# Altium footprint library Discrete_Passive.PcbLib: 311 footprints (part 8 of 20)
Each footprint in its own frame and in the unit in brackets; x right, y up, seen from the top. Pads: shape width x height; smd on the part's side, far side on the other; paste and mask are expansions set on the pad; w line width, h text height; cw(c..) or ccw(c..) is an arc to the next point about the centre after c.
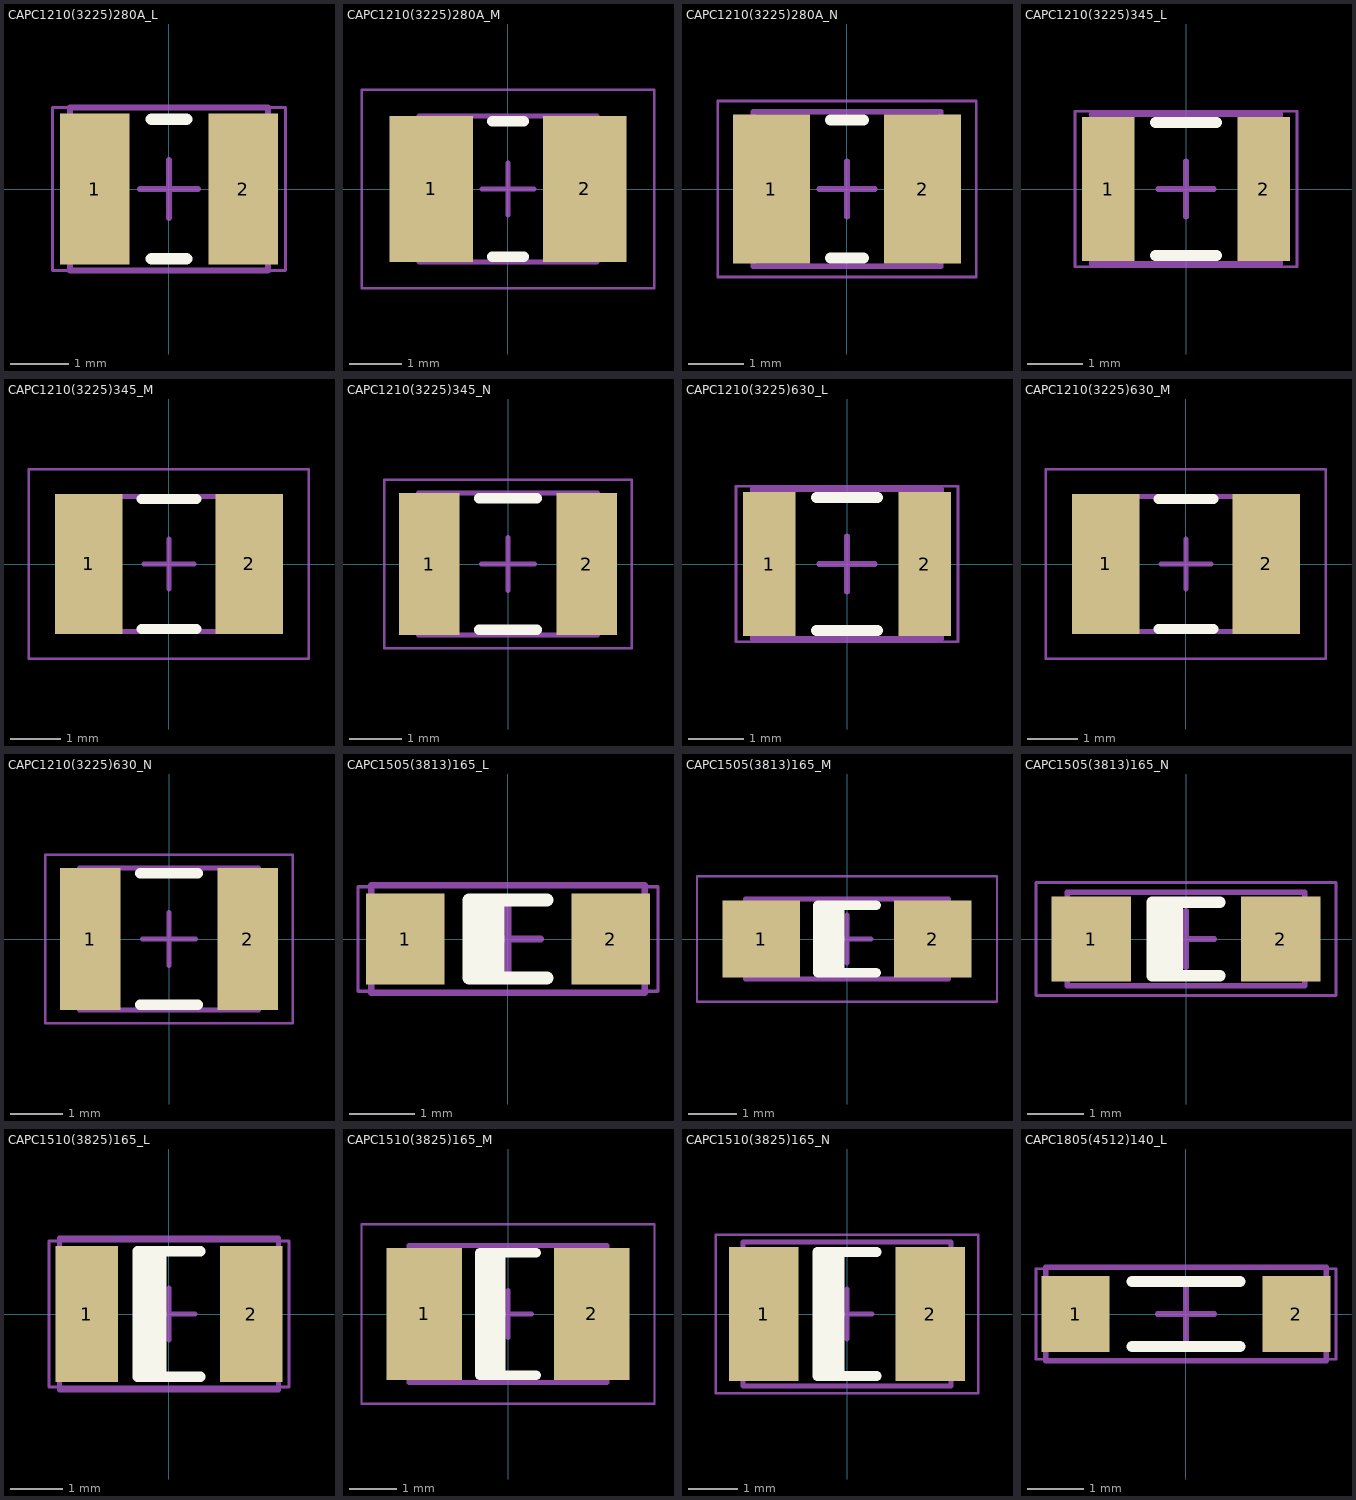
[diagram p7: the footprints below, top view; thin cyan lines are the x and y axes]

## CAPC1210(3225)280A_L [mm] "Chip Capacitor, Body 3.2x2.5mm, Height 2.8mm, IPC High Density"
height 2.8
pads (2):
  rect 1.2x2.6 smd: 1(-1.275,0) 2(1.275,0)
Top Overlay:
  lines w0.2: -0.3,-1.2 0.3,-1.2 ; -0.3,1.2 0.3,1.2
Mechanical 13:
  lines w0.1: -1.7,-1.4 1.7,-1.4 1.7,1.4 -1.7,1.4 -1.7,-1.4
Mechanical 15:
  lines w0.05: -2,-1.4 2,-1.4 2,1.4 -2,1.4 -2,-1.4
  lines w0.1: -0.5,0 0.5,0 ; 0,-0.5 0,0.5
3D body: height 2.8, standoff 0, extent 0.95,-1.4 1.7,1.4
3D body: height 2.8, standoff 0, extent -1.7,-1.4 -0.95,1.4
3D body: height 2.8, standoff 0, extent -0.95,-1.4 0.95,1.4

## CAPC1210(3225)280A_M [mm] "Chip Capacitor, Body 3.2x2.5mm, Height 2.8mm, IPC Low Density"
height 2.8
pads (2):
  rect 1.6x2.8 smd: 1(-1.475,0) 2(1.475,0)
Top Overlay:
  lines w0.2: -0.3,-1.3 0.3,-1.3 ; -0.3,1.3 0.3,1.3
Mechanical 13:
  lines w0.1: -1.7,-1.4 1.7,-1.4 1.7,1.4 -1.7,1.4 -1.7,-1.4
Mechanical 15:
  lines w0.05: -2.8,-1.9 2.8,-1.9 2.8,1.9 -2.8,1.9 -2.8,-1.9
  lines w0.1: -0.5,0 0.5,0 ; 0,-0.5 0,0.5
3D body: height 2.8, standoff 0, extent 0.95,-1.4 1.7,1.4
3D body: height 2.8, standoff 0, extent -1.7,-1.4 -0.95,1.4
3D body: height 2.8, standoff 0, extent -0.95,-1.4 0.95,1.4

## CAPC1210(3225)280A_N [mm] "Chip Capacitor, Body 3.2x2.5mm, Height 2.8mm, IPC Medium Density"
height 2.8
pads (2):
  rect 1.4x2.7 smd: 1(-1.375,0) 2(1.375,0)
Top Overlay:
  lines w0.2: -0.3,-1.25 0.3,-1.25 ; -0.3,1.25 0.3,1.25
Mechanical 13:
  lines w0.1: -1.7,-1.4 1.7,-1.4 1.7,1.4 -1.7,1.4 -1.7,-1.4
Mechanical 15:
  lines w0.05: -2.35,-1.6 2.35,-1.6 2.35,1.6 -2.35,1.6 -2.35,-1.6
  lines w0.1: -0.5,0 0.5,0 ; 0,-0.5 0,0.5
3D body: height 2.8, standoff 0, extent 0.95,-1.4 1.7,1.4
3D body: height 2.8, standoff 0, extent -1.7,-1.4 -0.95,1.4
3D body: height 2.8, standoff 0, extent -0.95,-1.4 0.95,1.4

## CAPC1210(3225)345_L [mm] "Chip Capacitor, Body 3.2x2.5mm, Height 3.45mm, IPC High Density"
height 3.45
pads (2):
  rect 0.95x2.6 smd: 1(-1.4,0) 2(1.4,0)
Top Overlay:
  lines w0.2: -0.55,-1.2 0.55,-1.2 ; -0.55,1.2 0.55,1.2
Mechanical 13:
  lines w0.1: -1.7,-1.35 1.7,-1.35 1.7,1.35 -1.7,1.35 -1.7,-1.35
Mechanical 15:
  lines w0.05: -2,-1.4 2,-1.4 2,1.4 -2,1.4 -2,-1.4
  lines w0.1: -0.5,0 0.5,0 ; 0,-0.5 0,0.5
3D body: height 3.45, standoff 0, extent 1.2,-1.35 1.7,1.35
3D body: height 3.45, standoff 0, extent -1.7,-1.35 -1.2,1.35
3D body: height 3.45, standoff 0, extent -1.2,-1.35 1.2,1.35

## CAPC1210(3225)345_M [mm] "Chip Capacitor, Body 3.2x2.5mm, Height 3.45mm, IPC Low Density"
height 3.45
pads (2):
  rect 1.35x2.8 smd: 1(-1.6,0) 2(1.6,0)
Top Overlay:
  lines w0.2: -0.55,-1.3 0.55,-1.3 ; -0.55,1.3 0.55,1.3
Mechanical 13:
  lines w0.1: -1.7,-1.35 1.7,-1.35 1.7,1.35 -1.7,1.35 -1.7,-1.35
Mechanical 15:
  lines w0.05: -2.8,-1.9 2.8,-1.9 2.8,1.9 -2.8,1.9 -2.8,-1.9
  lines w0.1: -0.5,0 0.5,0 ; 0,-0.5 0,0.5
3D body: height 3.45, standoff 0, extent 1.2,-1.35 1.7,1.35
3D body: height 3.45, standoff 0, extent -1.7,-1.35 -1.2,1.35
3D body: height 3.45, standoff 0, extent -1.2,-1.35 1.2,1.35

## CAPC1210(3225)345_N [mm] "Chip Capacitor, Body 3.2x2.5mm, Height 3.45mm, IPC Medium Density"
height 3.45
pads (2):
  rect 1.15x2.7 smd: 1(-1.5,0) 2(1.5,0)
Top Overlay:
  lines w0.2: -0.55,-1.25 0.55,-1.25 ; -0.55,1.25 0.55,1.25
Mechanical 13:
  lines w0.1: -1.7,-1.35 1.7,-1.35 1.7,1.35 -1.7,1.35 -1.7,-1.35
Mechanical 15:
  lines w0.05: -2.35,-1.6 2.35,-1.6 2.35,1.6 -2.35,1.6 -2.35,-1.6
  lines w0.1: -0.5,0 0.5,0 ; 0,-0.5 0,0.5
3D body: height 3.45, standoff 0, extent 1.2,-1.35 1.7,1.35
3D body: height 3.45, standoff 0, extent -1.7,-1.35 -1.2,1.35
3D body: height 3.45, standoff 0, extent -1.2,-1.35 1.2,1.35

## CAPC1210(3225)630_L [mm] "Chip Capacitor, Body 3.2x2.5mm, Height 6.3mm, IPC High Density"
height 6.3
pads (2):
  rect 0.95x2.6 smd: 1(-1.4,0) 2(1.4,0)
Top Overlay:
  lines w0.2: -0.55,-1.2 0.55,-1.2 ; -0.55,1.2 0.55,1.2
Mechanical 13:
  lines w0.1: -1.7,-1.35 1.7,-1.35 1.7,1.35 -1.7,1.35 -1.7,-1.35
Mechanical 15:
  lines w0.05: -2,-1.4 2,-1.4 2,1.4 -2,1.4 -2,-1.4
  lines w0.1: -0.5,0 0.5,0 ; 0,-0.5 0,0.5
3D body: height 6.3, standoff 0, extent 1.2,-1.35 1.7,1.35
3D body: height 6.3, standoff 0, extent -1.7,-1.35 -1.2,1.35
3D body: height 6.3, standoff 0, extent -1.2,-1.35 1.2,1.35

## CAPC1210(3225)630_M [mm] "Chip Capacitor, Body 3.2x2.5mm, Height 6.3mm, IPC Low Density"
height 6.3
pads (2):
  rect 1.35x2.8 smd: 1(-1.6,0) 2(1.6,0)
Top Overlay:
  lines w0.2: -0.55,-1.3 0.55,-1.3 ; -0.55,1.3 0.55,1.3
Mechanical 13:
  lines w0.1: -1.7,-1.35 1.7,-1.35 1.7,1.35 -1.7,1.35 -1.7,-1.35
Mechanical 15:
  lines w0.05: -2.8,-1.9 2.8,-1.9 2.8,1.9 -2.8,1.9 -2.8,-1.9
  lines w0.1: -0.5,0 0.5,0 ; 0,-0.5 0,0.5
3D body: height 6.3, standoff 0, extent 1.2,-1.35 1.7,1.35
3D body: height 6.3, standoff 0, extent -1.7,-1.35 -1.2,1.35
3D body: height 6.3, standoff 0, extent -1.2,-1.35 1.2,1.35

## CAPC1210(3225)630_N [mm] "Chip Capacitor, Body 3.2x2.5mm, Height 6.3mm, IPC Medium Density"
height 6.3
pads (2):
  rect 1.15x2.7 smd: 1(-1.5,0) 2(1.5,0)
Top Overlay:
  lines w0.2: -0.55,-1.25 0.55,-1.25 ; -0.55,1.25 0.55,1.25
Mechanical 13:
  lines w0.1: -1.7,-1.35 1.7,-1.35 1.7,1.35 -1.7,1.35 -1.7,-1.35
Mechanical 15:
  lines w0.05: -2.35,-1.6 2.35,-1.6 2.35,1.6 -2.35,1.6 -2.35,-1.6
  lines w0.1: -0.5,0 0.5,0 ; 0,-0.5 0,0.5
3D body: height 6.3, standoff 0, extent 1.2,-1.35 1.7,1.35
3D body: height 6.3, standoff 0, extent -1.7,-1.35 -1.2,1.35
3D body: height 6.3, standoff 0, extent -1.2,-1.35 1.2,1.35

## CAPC1505(3813)165_L [mm] "Chip Capacitor, Body 3.8x1.3mm, Height 1.65mm, IPC High Density"
height 1.65
pads (2):
  rect 1.2x1.4 smd: 1(-1.575,0) 2(1.575,0)
Top Overlay:
  rectangle: -0.6,-0.6 -0.05,0.6
  lines w0.2: 0.6,-0.6 -0.6,-0.6 -0.6,0.6 0.6,0.6
Mechanical 13:
  lines w0.1: -2.1,-0.825 2.1,-0.825 2.1,0.825 -2.1,0.825 -2.1,-0.825
Mechanical 15:
  lines w0.05: -2.3,-0.8 2.3,-0.8 2.3,0.8 -2.3,0.8 -2.3,-0.8
  lines w0.1: -0.5,0 0.5,0 ; 0,-0.5 0,0.5
3D body: height 1.65, standoff 0, extent 1.34,-0.825 2.1,0.825
3D body: height 1.65, standoff 0, extent -2.1,-0.825 -1.34,0.825
3D body: height 1.65, standoff 0, extent -1.34,-0.825 1.34,0.825

## CAPC1505(3813)165_M [mm] "Chip Capacitor, Body 3.8x1.3mm, Height 1.65mm, IPC Low Density"
height 1.65
pads (2):
  rect 1.6x1.6 smd: 1(-1.775,0) 2(1.775,0)
Top Overlay:
  rectangle: -0.6,-0.7 -0.05,0.7
  lines w0.2: 0.6,-0.7 -0.6,-0.7 -0.6,0.7 0.6,0.7
Mechanical 13:
  lines w0.1: -2.1,-0.825 2.1,-0.825 2.1,0.825 -2.1,0.825 -2.1,-0.825
Mechanical 15:
  lines w0.05: -3.1,-1.3 3.1,-1.3 3.1,1.3 -3.1,1.3 -3.1,-1.3
  lines w0.1: -0.5,0 0.5,0 ; 0,-0.5 0,0.5
3D body: height 1.65, standoff 0, extent 1.34,-0.825 2.1,0.825
3D body: height 1.65, standoff 0, extent -2.1,-0.825 -1.34,0.825
3D body: height 1.65, standoff 0, extent -1.34,-0.825 1.34,0.825

## CAPC1505(3813)165_N [mm] "Chip Capacitor, Body 3.8x1.3mm, Height 1.65mm, IPC Medium Density"
height 1.65
pads (2):
  rect 1.4x1.5 smd: 1(-1.675,0) 2(1.675,0)
Top Overlay:
  rectangle: -0.6,-0.65 -0.05,0.65
  lines w0.2: 0.6,-0.65 -0.6,-0.65 -0.6,0.65 0.6,0.65
Mechanical 13:
  lines w0.1: -2.1,-0.825 2.1,-0.825 2.1,0.825 -2.1,0.825 -2.1,-0.825
Mechanical 15:
  lines w0.05: -2.65,-1 2.65,-1 2.65,1 -2.65,1 -2.65,-1
  lines w0.1: -0.5,0 0.5,0 ; 0,-0.5 0,0.5
3D body: height 1.65, standoff 0, extent 1.34,-0.825 2.1,0.825
3D body: height 1.65, standoff 0, extent -2.1,-0.825 -1.34,0.825
3D body: height 1.65, standoff 0, extent -1.34,-0.825 1.34,0.825

## CAPC1510(3825)165_L [mm] "Chip Capacitor, Body 3.8x2.5mm, Height 1.65mm, IPC High Density"
height 1.65
pads (2):
  rect 1.2x2.6 smd: 1(-1.575,0) 2(1.575,0)
Top Overlay:
  rectangle: -0.6,-1.2 -0.05,1.2
  lines w0.2: 0.6,-1.2 -0.6,-1.2 -0.6,1.2 0.6,1.2
Mechanical 13:
  lines w0.1: -2.1,-1.45 2.1,-1.45 2.1,1.45 -2.1,1.45 -2.1,-1.45
Mechanical 15:
  lines w0.05: -2.3,-1.4 2.3,-1.4 2.3,1.4 -2.3,1.4 -2.3,-1.4
  lines w0.1: -0.5,0 0.5,0 ; 0,-0.5 0,0.5
3D body: height 1.65, standoff 0, extent 1.34,-1.45 2.1,1.45
3D body: height 1.65, standoff 0, extent -2.1,-1.45 -1.34,1.45
3D body: height 1.65, standoff 0, extent -1.34,-1.45 1.34,1.45

## CAPC1510(3825)165_M [mm] "Chip Capacitor, Body 3.8x2.5mm, Height 1.65mm, IPC Low Density"
height 1.65
pads (2):
  rect 1.6x2.8 smd: 1(-1.775,0) 2(1.775,0)
Top Overlay:
  rectangle: -0.6,-1.3 -0.05,1.3
  lines w0.2: 0.6,-1.3 -0.6,-1.3 -0.6,1.3 0.6,1.3
Mechanical 13:
  lines w0.1: -2.1,-1.45 2.1,-1.45 2.1,1.45 -2.1,1.45 -2.1,-1.45
Mechanical 15:
  lines w0.05: -3.1,-1.9 3.1,-1.9 3.1,1.9 -3.1,1.9 -3.1,-1.9
  lines w0.1: -0.5,0 0.5,0 ; 0,-0.5 0,0.5
3D body: height 1.65, standoff 0, extent 1.34,-1.45 2.1,1.45
3D body: height 1.65, standoff 0, extent -2.1,-1.45 -1.34,1.45
3D body: height 1.65, standoff 0, extent -1.34,-1.45 1.34,1.45

## CAPC1510(3825)165_N [mm] "Chip Capacitor, Body 3.8x2.5mm, Height 1.65mm, IPC Medium Density"
height 1.65
pads (2):
  rect 1.4x2.7 smd: 1(-1.675,0) 2(1.675,0)
Top Overlay:
  rectangle: -0.6,-1.25 -0.05,1.25
  lines w0.2: 0.6,-1.25 -0.6,-1.25 -0.6,1.25 0.6,1.25
Mechanical 13:
  lines w0.1: -2.1,-1.45 2.1,-1.45 2.1,1.45 -2.1,1.45 -2.1,-1.45
Mechanical 15:
  lines w0.05: -2.65,-1.6 2.65,-1.6 2.65,1.6 -2.65,1.6 -2.65,-1.6
  lines w0.1: -0.5,0 0.5,0 ; 0,-0.5 0,0.5
3D body: height 1.65, standoff 0, extent 1.34,-1.45 2.1,1.45
3D body: height 1.65, standoff 0, extent -2.1,-1.45 -1.34,1.45
3D body: height 1.65, standoff 0, extent -1.34,-1.45 1.34,1.45

## CAPC1805(4512)140_L [mm] "Chip Capacitor, Body 4.5x1.2mm, Height 1.4mm, IPC High Density"
height 1.4
pads (2):
  rect 1.2x1.35 smd: 1(-1.95,0) 2(1.95,0)
Top Overlay:
  lines w0.2: -0.95,-0.575 0.95,-0.575 ; -0.95,0.575 0.95,0.575
Mechanical 13:
  lines w0.1: -2.475,-0.825 2.475,-0.825 2.475,0.825 -2.475,0.825 -2.475,-0.825
Mechanical 15:
  lines w0.05: -2.65,-0.8 2.65,-0.8 2.65,0.8 -2.65,0.8 -2.65,-0.8
  lines w0.1: -0.5,0 0.5,0 ; 0,-0.5 0,0.5
3D body: height 1.4, standoff 0, extent 1.975,-0.825 2.475,0.825
3D body: height 1.4, standoff 0, extent -2.475,-0.825 -1.975,0.825
3D body: height 1.4, standoff 0, extent -1.975,-0.825 1.975,0.825